# EAGLE library part INA226 (library chlk_bot)
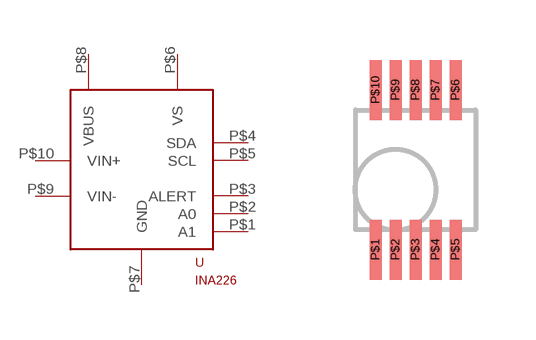
[diagram p8: symbol with the pads of PSOP-10; footprint PSOP-10]

Designator prefix -

## INA226  [PSOP-10]
P$1  A1
P$2  A0
P$3  ALERT
P$4  SDA
P$5  SCL
P$6  VS
P$7  GND
P$8  VBUS
P$9  VIN-
P$10  VIN+

## Footprint PSOP-10 (pad centres in mm)
smd 0.3 x 1.5: P$1 -0.5,-1.5; P$2 0,-1.5; P$3 0.5,-1.5; P$4 1,-1.5; P$5 1.5,-1.5; P$6 1.5,2.5; P$7 1,2.5; P$8 0.5,2.5; P$9 0,2.5; P$10 -0.5,2.5